# Altium footprint library NX3215SA32768KEXS00AMU00003.PcbLib: 1 footprints
Each footprint in its own frame and in the unit in brackets; x right, y up, seen from the top. Pads: shape width x height; smd on the part's side, far side on the other; paste and mask are expansions set on the pad; w line width, h text height; cw(c..) or ccw(c..) is an arc to the next point about the centre after c.
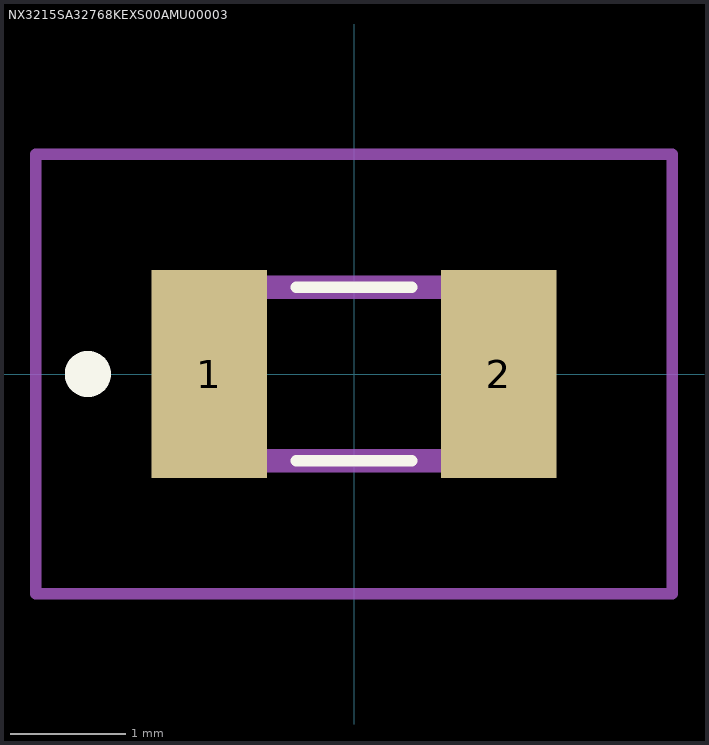
[diagram p0: the footprint, top view; thin cyan lines are the x and y axes]

## NX3215SA32768KEXS00AMU00003 [mm]
pads (2):
  rect 1x1.8 smd: 1(-1.25,0) 2(1.25,0)
Top Overlay:
  lines w0.1: -0.5,-0.75 0.5,-0.75 ; -0.5,0.75 0.5,0.75
  lines w0.2: -2.3,-0.1 cw(c-2.3,0) -2.3,0.1 ; -2.3,-0.1 -2.3,-0.1 ; -2.3,-0.1 ccw(c-2.3,0) -2.3,0.1 ; -2.3,0.1 -2.3,0.1
Mechanical 15:
  lines w0.2: -1.6,-0.75 1.6,-0.75 1.6,0.75 -1.6,0.75 -1.6,-0.75
Mechanical 20:
  lines w0.1: -2.75,-1.9 2.75,-1.9 2.75,1.9 -2.75,1.9 -2.75,-1.9